# Altium footprint library RHDR4W100P0X500_1X4_2140X820X1210P.PcbLib: 1 footprints
Each footprint in its own frame and in the unit in brackets; x right, y up, seen from the top. Pads: shape width x height; smd on the part's side, far side on the other; paste and mask are expansions set on the pad; w line width, h text height; cw(c..) or ccw(c..) is an arc to the next point about the centre after c.
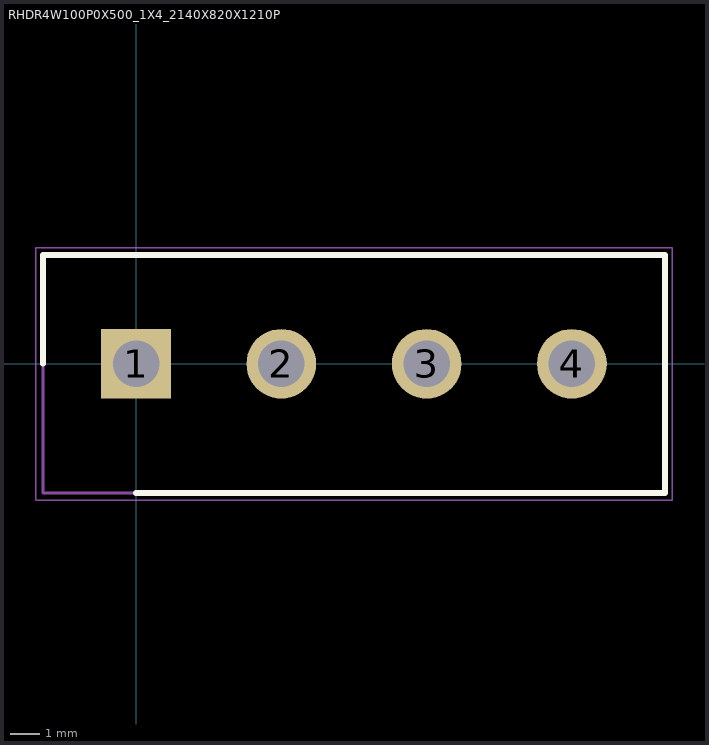
[diagram p0: the footprint, top view; thin cyan lines are the x and y axes]

## RHDR4W100P0X500_1X4_2140X820X1210P [mm]
pads (4):
  rect 2.4x2.4 / inner round 2.4 / far side rect 2.4x2.4 hole 1.6: 1(0,0)
  round 2.4 hole 1.6: 2(5,0) 3(10,0) 4(15,0)
Top Overlay:
  lines w0.2: -3.2,0 -3.2,3.75 18.2,3.75 18.2,-4.45 0,-4.45
Mechanical 15:
  lines w0.1: -3.2,-4.45 -3.2,3.75 18.2,3.75 18.2,-4.45 -3.2,-4.45
Mechanical 20:
  lines w0.05: -3.45,-4.7 -3.45,4 18.45,4 18.45,-4.7 -3.45,-4.7